# Altium schematic symbol library 691 312 710 0xx.SchLib: 6 symbols
Pins are listed as number, name and electrical type; pins without a type are passive.

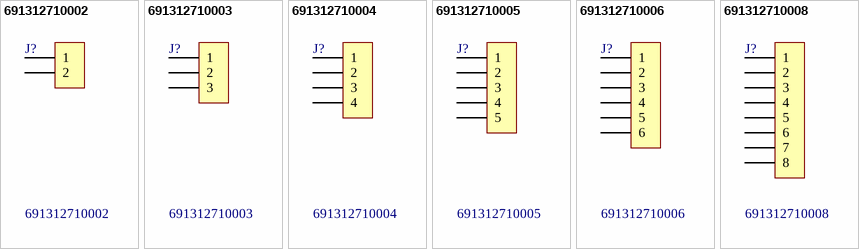
[diagram p0: symbols 691312710002 to 691312710008]

## 691312710002
designator J?
WR-TBL Terminal block - serie 3127 - 5.00mm; Manufacturer: Würth Elektronik eiSos GmbH; ComponentLink1 Description: Manufacturer; ComponentLink2 Description: Datasheet; NoPins: 02; Created Date: 6 January 2014; partNo: 691312710002; ComponentLink1URL: http://www.we-online.com; ComponentLink2URL: http://katalog.we-online.de/em/datasheet/6913127100xx.pdf; Created by: Karrer Zheng
footprint 691312710002
pins: 1, 2

## 691312710003
designator J?
WR-TBL Terminal block - serie 3127 - 5.00mm; Manufacturer: Würth Elektronik eiSos GmbH; ComponentLink1 Description: Manufacturer; ComponentLink2 Description: Datasheet; NoPins: 03; Created Date: 6 January 2014; partNo: 691312710003; ComponentLink1URL: http://www.we-online.com; ComponentLink2URL: http://katalog.we-online.de/em/datasheet/6913127100xx.pdf; Created by: Karrer Zheng
footprint 691312710003
pins: 1, 2, 3

## 691312710004
designator J?
WR-TBL Terminal block - serie 3127 - 5.00mm; Manufacturer: Würth Elektronik eiSos GmbH; ComponentLink1 Description: Manufacturer; ComponentLink2 Description: Datasheet; NoPins: 04; Created Date: 6 January 2014; partNo: 691312710004; ComponentLink1URL: http://www.we-online.com; ComponentLink2URL: http://katalog.we-online.de/em/datasheet/6913127100xx.pdf; Created by: Karrer Zheng
footprint 691312710004
pins: 1, 2, 3, 4

## 691312710005
designator J?
WR-TBL Terminal block - serie 3127 - 5.00mm; Manufacturer: Würth Elektronik eiSos GmbH; ComponentLink1 Description: Manufacturer; ComponentLink2 Description: Datasheet; NoPins: 05; Created Date: 6 January 2014; partNo: 691312710005; ComponentLink1URL: http://www.we-online.com; ComponentLink2URL: http://katalog.we-online.de/em/datasheet/6913127100xx.pdf; Created by: Karrer Zheng
footprint 691312710005
pins: 1, 2, 3, 4, 5

## 691312710006
designator J?
WR-TBL Terminal block - serie 3127 - 5.00mm; Manufacturer: Würth Elektronik eiSos GmbH; ComponentLink1 Description: Manufacturer; ComponentLink2 Description: Datasheet; NoPins: 06; Created Date: 6 January 2014; partNo: 691312710006; ComponentLink1URL: http://www.we-online.com; ComponentLink2URL: http://katalog.we-online.de/em/datasheet/6913127100xx.pdf; Created by: Karrer Zheng
footprint 691312710006
pins: 1, 2, 3, 4, 5, 6

## 691312710008
designator J?
WR-TBL Terminal block - serie 3127 - 5.00mm; Manufacturer: Würth Elektronik eiSos GmbH; ComponentLink1 Description: Manufacturer; ComponentLink2 Description: Datasheet; NoPins: 08; Created Date: 6 January 2014; partNo: 691312710008; ComponentLink1URL: http://www.we-online.com; ComponentLink2URL: http://katalog.we-online.de/em/datasheet/6913127100xx.pdf; Created by: Karrer Zheng
footprint 691312710008
pins: 1, 2, 3, 4, 5, 6, 7, 8